# Altium schematic symbol library STMPS2151TTR.SchLib: 1 symbol
Pins are listed as number, name and electrical type; pins without a type are passive.

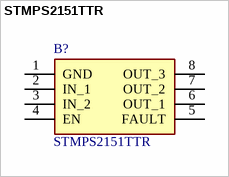
[diagram p0: symbol STMPS2151TTR]

## STMPS2151TTR
designator B?
Power Switch ICs - Power Distribution SGL CHNL PWR SWTCH; Manufacturer_Name: STMicroelectronics; Geometry.Height: 1.1mm; Manufacturer_Part_Number: STMPS2151TTR; Mouser Part Number: 511-STMPS2151TTR; Mouser Price/Stock: https://www.mouser.co.uk/ProductDetail/STMicroelectronics/STMPS2151TTR?qs=qolwYojYp3TtdEE8TCWfkg%3D%3D; Arrow Part Number: STMPS2151TTR; Arrow Price/Stock: https://www.arrow.com/en/products/stmps2151ttr/stmicroelectronics; Datasheet Link: https://www.st.com/resource/en/datasheet/stmps2141.pdf
footprint SOP65P490X110-8N
pins: 1 GND, 2 IN_1, 3 IN_2, 4 EN, 5 FAULT, 6 OUT_1, 7 OUT_2, 8 OUT_3